# Altium schematic symbol library Cherry MX.SchLib: 1 symbol
Pins are listed as number, name and electrical type; pins without a type are passive.

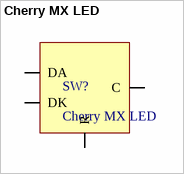
[diagram p0: symbol Cherry MX LED]

## Cherry MX LED
designator SW?
footprint Cherry MX LED
pins: 1 R, 2 C, 3 DA, 4 DK